# Altium footprint library Connector_Molex.PcbLib: 815 footprints (part 47 of 51)
Each footprint in its own frame and in the unit in brackets; x right, y up, seen from the top. Pads: shape width x height; smd on the part's side, far side on the other; paste and mask are expansions set on the pad; w line width, h text height; cw(c..) or ccw(c..) is an arc to the next point about the centre after c.
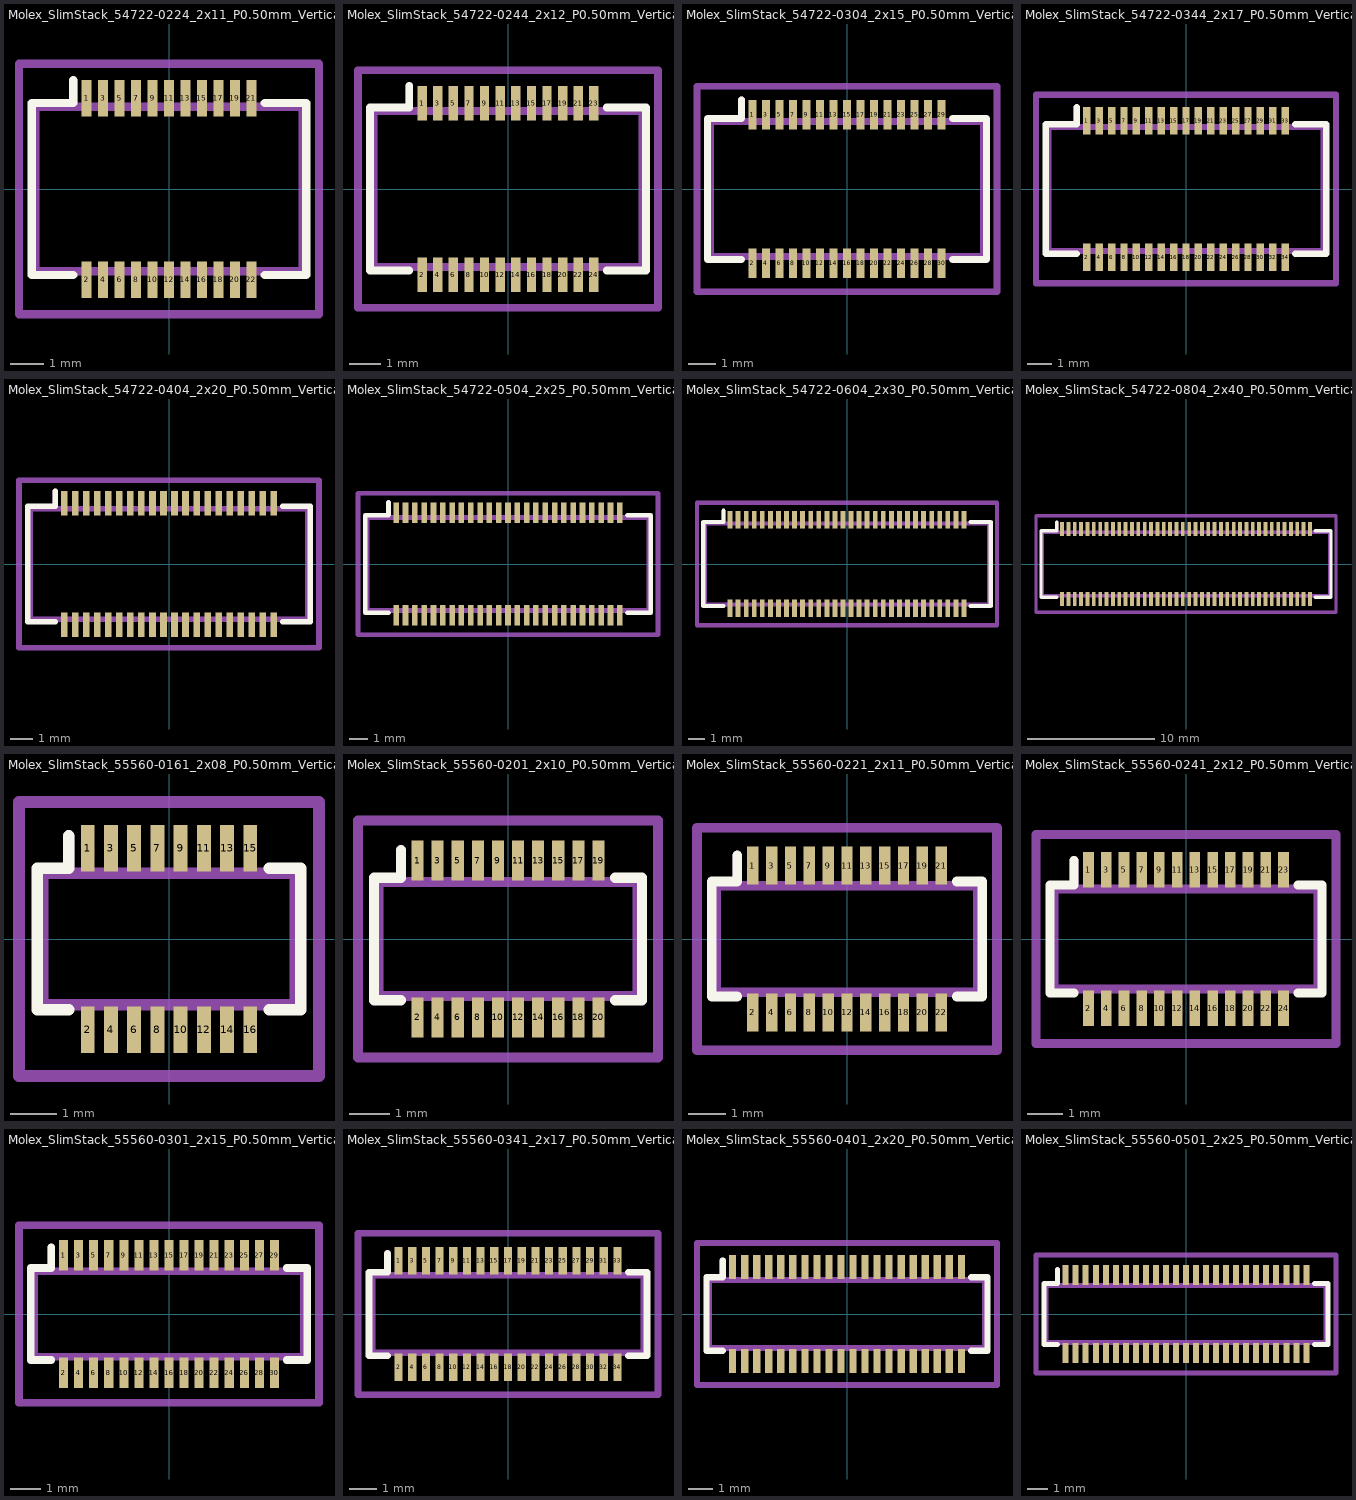
[diagram p46: the footprints below, top view; thin cyan lines are the x and y axes]

## Molex_SlimStack_54722-0224_2x11_P0.50mm_Vertical [mm]
pads (22):
  rect 0.3x1.1 smd: 1(-2.5,2.75) 2(-2.5,-2.75) 3(-2,2.75) 4(-2,-2.75) 5(-1.5,2.75) 6(-1.5,-2.75) 7(-1,2.75) 8(-1,-2.75) 9(-0.5,2.75) 10(-0.5,-2.75) 11(0,2.75) 12(0,-2.75) 13(0.5,2.75) 14(0.5,-2.75) 15(1,2.75) 16(1,-2.75) 17(1.5,2.75) 18(1.5,-2.75) 19(2,2.75) 20(2,-2.75) 21(2.5,2.75) 22(2.5,-2.75)
F.SilkS:
  lines w0.254: -2.91,-2.61 -4.16,-2.61 -4.16,2.61 -2.91,2.61 -2.91,3.3 ; 2.91,-2.61 4.16,-2.61 4.16,2.61 2.91,2.61
Top Assembly:
  lines w0.254: -2.91,2.61 -2.91,3.3 ; -4.05,-2.5 4.05,-2.5 4.05,2.5 -4.05,2.5 -4.05,-2.5
  text "'.Designator'" at -4.047,-0.84 h1
Top Courtyard:
  lines w0.254: -4.55,-3.8 4.55,-3.8 4.55,3.8 -4.55,3.8 -4.55,-3.8
Top Designator:
  text ".Designator" at -7.618,-0.508 h1.52

## Molex_SlimStack_54722-0244_2x12_P0.50mm_Vertical [mm]
pads (24):
  rect 0.3x1.1 smd: 1(-2.75,2.75) 2(-2.75,-2.75) 3(-2.25,2.75) 4(-2.25,-2.75) 5(-1.75,2.75) 6(-1.75,-2.75) 7(-1.25,2.75) 8(-1.25,-2.75) 9(-0.75,2.75) 10(-0.75,-2.75) 11(-0.25,2.75) 12(-0.25,-2.75) 13(0.25,2.75) 14(0.25,-2.75) 15(0.75,2.75) 16(0.75,-2.75) 17(1.25,2.75) 18(1.25,-2.75) 19(1.75,2.75) 20(1.75,-2.75) 21(2.25,2.75) 22(2.25,-2.75) 23(2.75,2.75) 24(2.75,-2.75)
F.SilkS:
  lines w0.254: -3.16,-2.61 -4.41,-2.61 -4.41,2.61 -3.16,2.61 -3.16,3.3 ; 3.16,-2.61 4.41,-2.61 4.41,2.61 3.16,2.61
Top Assembly:
  lines w0.254: -3.16,2.61 -3.16,3.3 ; -4.3,-2.5 4.3,-2.5 4.3,2.5 -4.3,2.5 -4.3,-2.5
  text "'.Designator'" at -4.047,-0.84 h1
Top Courtyard:
  lines w0.254: -4.8,-3.8 4.8,-3.8 4.8,3.8 -4.8,3.8 -4.8,-3.8
Top Designator:
  text ".Designator" at -7.618,-0.508 h1.52

## Molex_SlimStack_54722-0304_2x15_P0.50mm_Vertical [mm]
pads (30):
  rect 0.3x1.1 smd: 1(-3.5,2.75) 2(-3.5,-2.75) 3(-3,2.75) 4(-3,-2.75) 5(-2.5,2.75) 6(-2.5,-2.75) 7(-2,2.75) 8(-2,-2.75) 9(-1.5,2.75) 10(-1.5,-2.75) 11(-1,2.75) 12(-1,-2.75) 13(-0.5,2.75) 14(-0.5,-2.75) 15(0,2.75) 16(0,-2.75) 17(0.5,2.75) 18(0.5,-2.75) 19(1,2.75) 20(1,-2.75) 21(1.5,2.75) 22(1.5,-2.75) 23(2,2.75) 24(2,-2.75) 25(2.5,2.75) 26(2.5,-2.75) 27(3,2.75) 28(3,-2.75) 29(3.5,2.75) 30(3.5,-2.75)
F.SilkS:
  lines w0.254: -3.91,-2.61 -5.16,-2.61 -5.16,2.61 -3.91,2.61 -3.91,3.3 ; 3.91,-2.61 5.16,-2.61 5.16,2.61 3.91,2.61
Top Assembly:
  lines w0.254: -3.91,2.61 -3.91,3.3 ; -5.05,-2.5 5.05,-2.5 5.05,2.5 -5.05,2.5 -5.05,-2.5
  text "'.Designator'" at -4.047,-0.84 h1
Top Courtyard:
  lines w0.254: -5.55,-3.8 5.55,-3.8 5.55,3.8 -5.55,3.8 -5.55,-3.8
Top Designator:
  text ".Designator" at -7.618,-0.508 h1.52

## Molex_SlimStack_54722-0344_2x17_P0.50mm_Vertical [mm]
pads (34):
  rect 0.3x1.1 smd: 1(-4,2.75) 2(-4,-2.75) 3(-3.5,2.75) 4(-3.5,-2.75) 5(-3,2.75) 6(-3,-2.75) 7(-2.5,2.75) 8(-2.5,-2.75) 9(-2,2.75) 10(-2,-2.75) 11(-1.5,2.75) 12(-1.5,-2.75) 13(-1,2.75) 14(-1,-2.75) 15(-0.5,2.75) 16(-0.5,-2.75) 17(0,2.75) 18(0,-2.75) 19(0.5,2.75) 20(0.5,-2.75) 21(1,2.75) 22(1,-2.75) 23(1.5,2.75) 24(1.5,-2.75) 25(2,2.75) 26(2,-2.75) 27(2.5,2.75) 28(2.5,-2.75) 29(3,2.75) 30(3,-2.75) 31(3.5,2.75) 32(3.5,-2.75) 33(4,2.75) 34(4,-2.75)
F.SilkS:
  lines w0.254: -4.41,-2.61 -5.66,-2.61 -5.66,2.61 -4.41,2.61 -4.41,3.3 ; 4.41,-2.61 5.66,-2.61 5.66,2.61 4.41,2.61
Top Assembly:
  lines w0.254: -4.41,2.61 -4.41,3.3 ; -5.55,-2.5 5.55,-2.5 5.55,2.5 -5.55,2.5 -5.55,-2.5
  text "'.Designator'" at -4.047,-0.84 h1
Top Courtyard:
  lines w0.254: -6.05,-3.8 6.05,-3.8 6.05,3.8 -6.05,3.8 -6.05,-3.8
Top Designator:
  text ".Designator" at -7.618,-0.508 h1.52

## Molex_SlimStack_54722-0404_2x20_P0.50mm_Vertical [mm]
pads (40):
  rect 0.3x1.1 smd: 1(-4.75,2.75) 2(-4.75,-2.75) 3(-4.25,2.75) 4(-4.25,-2.75) 5(-3.75,2.75) 6(-3.75,-2.75) 7(-3.25,2.75) 8(-3.25,-2.75) 9(-2.75,2.75) 10(-2.75,-2.75) 11(-2.25,2.75) 12(-2.25,-2.75) 13(-1.75,2.75) 14(-1.75,-2.75) 15(-1.25,2.75) 16(-1.25,-2.75) 17(-0.75,2.75) 18(-0.75,-2.75) 19(-0.25,2.75) 20(-0.25,-2.75) 21(0.25,2.75) 22(0.25,-2.75) 23(0.75,2.75) 24(0.75,-2.75) 25(1.25,2.75) 26(1.25,-2.75) 27(1.75,2.75) 28(1.75,-2.75) 29(2.25,2.75) 30(2.25,-2.75) 31(2.75,2.75) 32(2.75,-2.75) 33(3.25,2.75) 34(3.25,-2.75) 35(3.75,2.75) 36(3.75,-2.75) 37(4.25,2.75) 38(4.25,-2.75) 39(4.75,2.75) 40(4.75,-2.75)
F.SilkS:
  lines w0.254: -5.16,-2.61 -6.41,-2.61 -6.41,2.61 -5.16,2.61 -5.16,3.3 ; 5.16,-2.61 6.41,-2.61 6.41,2.61 5.16,2.61
Top Assembly:
  lines w0.254: -5.16,2.61 -5.16,3.3 ; -6.3,-2.5 6.3,-2.5 6.3,2.5 -6.3,2.5 -6.3,-2.5
  text "'.Designator'" at -4.047,-0.84 h1
Top Courtyard:
  lines w0.254: -6.8,-3.8 6.8,-3.8 6.8,3.8 -6.8,3.8 -6.8,-3.8
Top Designator:
  text ".Designator" at -7.618,-0.508 h1.52

## Molex_SlimStack_54722-0504_2x25_P0.50mm_Vertical [mm]
pads (50):
  rect 0.3x1.1 smd: 1(-6,2.75) 2(-6,-2.75) 3(-5.5,2.75) 4(-5.5,-2.75) 5(-5,2.75) 6(-5,-2.75) 7(-4.5,2.75) 8(-4.5,-2.75) 9(-4,2.75) 10(-4,-2.75) 11(-3.5,2.75) 12(-3.5,-2.75) 13(-3,2.75) 14(-3,-2.75) 15(-2.5,2.75) 16(-2.5,-2.75) 17(-2,2.75) 18(-2,-2.75) 19(-1.5,2.75) 20(-1.5,-2.75) 21(-1,2.75) 22(-1,-2.75) 23(-0.5,2.75) 24(-0.5,-2.75) 25(0,2.75) 26(0,-2.75) 27(0.5,2.75) 28(0.5,-2.75) 29(1,2.75) 30(1,-2.75) 31(1.5,2.75) 32(1.5,-2.75) 33(2,2.75) 34(2,-2.75) 35(2.5,2.75) 36(2.5,-2.75) 37(3,2.75) 38(3,-2.75) 39(3.5,2.75) 40(3.5,-2.75) 41(4,2.75) 42(4,-2.75) 43(4.5,2.75) 44(4.5,-2.75) 45(5,2.75) 46(5,-2.75) 47(5.5,2.75) 48(5.5,-2.75) 49(6,2.75) 50(6,-2.75)
F.SilkS:
  lines w0.254: -6.41,-2.61 -7.66,-2.61 -7.66,2.61 -6.41,2.61 -6.41,3.3 ; 6.41,-2.61 7.66,-2.61 7.66,2.61 6.41,2.61
Top Assembly:
  lines w0.254: -6.41,2.61 -6.41,3.3 ; -7.55,-2.5 7.55,-2.5 7.55,2.5 -7.55,2.5 -7.55,-2.5
  text "'.Designator'" at -4.047,-0.84 h1
Top Courtyard:
  lines w0.254: -8.05,-3.8 8.05,-3.8 8.05,3.8 -8.05,3.8 -8.05,-3.8
Top Designator:
  text ".Designator" at -7.618,-0.508 h1.52

## Molex_SlimStack_54722-0604_2x30_P0.50mm_Vertical [mm]
pads (60):
  rect 0.3x1.1 smd: 1(-7.25,2.75) 2(-7.25,-2.75) 3(-6.75,2.75) 4(-6.75,-2.75) 5(-6.25,2.75) 6(-6.25,-2.75) 7(-5.75,2.75) 8(-5.75,-2.75) 9(-5.25,2.75) 10(-5.25,-2.75) 11(-4.75,2.75) 12(-4.75,-2.75) 13(-4.25,2.75) 14(-4.25,-2.75) 15(-3.75,2.75) 16(-3.75,-2.75) 17(-3.25,2.75) 18(-3.25,-2.75) 19(-2.75,2.75) 20(-2.75,-2.75) 21(-2.25,2.75) 22(-2.25,-2.75) 23(-1.75,2.75) 24(-1.75,-2.75) 25(-1.25,2.75) 26(-1.25,-2.75) 27(-0.75,2.75) 28(-0.75,-2.75) 29(-0.25,2.75) 30(-0.25,-2.75) 31(0.25,2.75) 32(0.25,-2.75) 33(0.75,2.75) 34(0.75,-2.75) 35(1.25,2.75) 36(1.25,-2.75) 37(1.75,2.75) 38(1.75,-2.75) 39(2.25,2.75) 40(2.25,-2.75) 41(2.75,2.75) 42(2.75,-2.75) 43(3.25,2.75) 44(3.25,-2.75) 45(3.75,2.75) 46(3.75,-2.75) 47(4.25,2.75) 48(4.25,-2.75) 49(4.75,2.75) 50(4.75,-2.75) 51(5.25,2.75) 52(5.25,-2.75) 53(5.75,2.75) 54(5.75,-2.75) 55(6.25,2.75) 56(6.25,-2.75) 57(6.75,2.75) 58(6.75,-2.75) 59(7.25,2.75) 60(7.25,-2.75)
F.SilkS:
  lines w0.254: -7.66,-2.61 -8.91,-2.61 -8.91,2.61 -7.66,2.61 -7.66,3.3 ; 7.66,-2.61 8.91,-2.61 8.91,2.61 7.66,2.61
Top Assembly:
  lines w0.254: -7.66,2.61 -7.66,3.3 ; -8.8,-2.5 8.8,-2.5 8.8,2.5 -8.8,2.5 -8.8,-2.5
  text "'.Designator'" at -4.047,-0.84 h1
Top Courtyard:
  lines w0.254: -9.3,-3.8 9.3,-3.8 9.3,3.8 -9.3,3.8 -9.3,-3.8
Top Designator:
  text ".Designator" at -7.618,-0.508 h1.52

## Molex_SlimStack_54722-0804_2x40_P0.50mm_Vertical [mm]
pads (80):
  rect 0.3x1.1 smd: 1(-9.75,2.75) 2(-9.75,-2.75) 3(-9.25,2.75) 4(-9.25,-2.75) 5(-8.75,2.75) 6(-8.75,-2.75) 7(-8.25,2.75) 8(-8.25,-2.75) 9(-7.75,2.75) 10(-7.75,-2.75) 11(-7.25,2.75) 12(-7.25,-2.75) 13(-6.75,2.75) 14(-6.75,-2.75) 15(-6.25,2.75) 16(-6.25,-2.75) 17(-5.75,2.75) 18(-5.75,-2.75) 19(-5.25,2.75) 20(-5.25,-2.75) 21(-4.75,2.75) 22(-4.75,-2.75) 23(-4.25,2.75) 24(-4.25,-2.75) 25(-3.75,2.75) 26(-3.75,-2.75) 27(-3.25,2.75) 28(-3.25,-2.75) 29(-2.75,2.75) 30(-2.75,-2.75) 31(-2.25,2.75) 32(-2.25,-2.75) 33(-1.75,2.75) 34(-1.75,-2.75) 35(-1.25,2.75) 36(-1.25,-2.75) 37(-0.75,2.75) 38(-0.75,-2.75) 39(-0.25,2.75) 40(-0.25,-2.75) 41(0.25,2.75) 42(0.25,-2.75) 43(0.75,2.75) 44(0.75,-2.75) 45(1.25,2.75) 46(1.25,-2.75) 47(1.75,2.75) 48(1.75,-2.75) 49(2.25,2.75) 50(2.25,-2.75) 51(2.75,2.75) 52(2.75,-2.75) 53(3.25,2.75) 54(3.25,-2.75) 55(3.75,2.75) 56(3.75,-2.75) 57(4.25,2.75) 58(4.25,-2.75) 59(4.75,2.75) 60(4.75,-2.75) 61(5.25,2.75) 62(5.25,-2.75) 63(5.75,2.75) 64(5.75,-2.75) 65(6.25,2.75) 66(6.25,-2.75) 67(6.75,2.75) 68(6.75,-2.75) 69(7.25,2.75) 70(7.25,-2.75) 71(7.75,2.75) 72(7.75,-2.75) 73(8.25,2.75) 74(8.25,-2.75) 75(8.75,2.75) 76(8.75,-2.75) 77(9.25,2.75) 78(9.25,-2.75) 79(9.75,2.75) 80(9.75,-2.75)
F.SilkS:
  lines w0.254: -10.16,-2.61 -11.41,-2.61 -11.41,2.61 -10.16,2.61 -10.16,3.3 ; 10.16,-2.61 11.41,-2.61 11.41,2.61 10.16,2.61
Top Assembly:
  lines w0.254: -10.16,2.61 -10.16,3.3 ; -11.3,-2.5 11.3,-2.5 11.3,2.5 -11.3,2.5 -11.3,-2.5
  text "'.Designator'" at -4.047,-0.84 h1
Top Courtyard:
  lines w0.254: -11.8,-3.8 11.8,-3.8 11.8,3.8 -11.8,3.8 -11.8,-3.8
Top Designator:
  text ".Designator" at -7.618,-0.508 h1.52

## Molex_SlimStack_55560-0161_2x08_P0.50mm_Vertical [mm]
pads (16):
  rect 0.3x1 smd: 1(-1.75,1.95) 2(-1.75,-1.95) 3(-1.25,1.95) 4(-1.25,-1.95) 5(-0.75,1.95) 6(-0.75,-1.95) 7(-0.25,1.95) 8(-0.25,-1.95) 9(0.25,1.95) 10(0.25,-1.95) 11(0.75,1.95) 12(0.75,-1.95) 13(1.25,1.95) 14(1.25,-1.95) 15(1.75,1.95) 16(1.75,-1.95)
F.SilkS:
  lines w0.254: -2.16,-1.525 -2.835,-1.525 -2.835,1.525 -2.16,1.525 -2.16,2.215 ; 2.16,-1.525 2.835,-1.525 2.835,1.525 2.16,1.525
Top Assembly:
  lines w0.254: -2.16,1.525 -2.16,2.215 ; -2.725,-1.415 2.725,-1.415 2.725,1.415 -2.725,1.415 -2.725,-1.415
  text "'.Designator'" at -4.047,-0.84 h1
Top Courtyard:
  lines w0.254: -3.23,-2.95 3.23,-2.95 3.23,2.95 -3.23,2.95 -3.23,-2.95
Top Designator:
  text ".Designator" at -7.768,-0.508 h1.52

## Molex_SlimStack_55560-0201_2x10_P0.50mm_Vertical [mm]
pads (20):
  rect 0.3x1 smd: 1(-2.25,1.95) 2(-2.25,-1.95) 3(-1.75,1.95) 4(-1.75,-1.95) 5(-1.25,1.95) 6(-1.25,-1.95) 7(-0.75,1.95) 8(-0.75,-1.95) 9(-0.25,1.95) 10(-0.25,-1.95) 11(0.25,1.95) 12(0.25,-1.95) 13(0.75,1.95) 14(0.75,-1.95) 15(1.25,1.95) 16(1.25,-1.95) 17(1.75,1.95) 18(1.75,-1.95) 19(2.25,1.95) 20(2.25,-1.95)
F.SilkS:
  lines w0.254: -2.66,-1.525 -3.335,-1.525 -3.335,1.525 -2.66,1.525 -2.66,2.215 ; 2.66,-1.525 3.335,-1.525 3.335,1.525 2.66,1.525
Top Assembly:
  lines w0.254: -2.66,1.525 -2.66,2.215 ; -3.225,-1.415 3.225,-1.415 3.225,1.415 -3.225,1.415 -3.225,-1.415
  text "'.Designator'" at -4.047,-0.84 h1
Top Courtyard:
  lines w0.254: -3.73,-2.95 3.73,-2.95 3.73,2.95 -3.73,2.95 -3.73,-2.95
Top Designator:
  text ".Designator" at -7.768,-0.508 h1.52

## Molex_SlimStack_55560-0221_2x11_P0.50mm_Vertical [mm]
pads (22):
  rect 0.3x1 smd: 1(-2.5,1.95) 2(-2.5,-1.95) 3(-2,1.95) 4(-2,-1.95) 5(-1.5,1.95) 6(-1.5,-1.95) 7(-1,1.95) 8(-1,-1.95) 9(-0.5,1.95) 10(-0.5,-1.95) 11(0,1.95) 12(0,-1.95) 13(0.5,1.95) 14(0.5,-1.95) 15(1,1.95) 16(1,-1.95) 17(1.5,1.95) 18(1.5,-1.95) 19(2,1.95) 20(2,-1.95) 21(2.5,1.95) 22(2.5,-1.95)
F.SilkS:
  lines w0.254: -2.91,-1.525 -3.585,-1.525 -3.585,1.525 -2.91,1.525 -2.91,2.215 ; 2.91,-1.525 3.585,-1.525 3.585,1.525 2.91,1.525
Top Assembly:
  lines w0.254: -2.91,1.525 -2.91,2.215 ; -3.475,-1.415 3.475,-1.415 3.475,1.415 -3.475,1.415 -3.475,-1.415
  text "'.Designator'" at -4.047,-0.84 h1
Top Courtyard:
  lines w0.254: -3.98,-2.95 3.98,-2.95 3.98,2.95 -3.98,2.95 -3.98,-2.95
Top Designator:
  text ".Designator" at -7.662,-0.508 h1.52

## Molex_SlimStack_55560-0241_2x12_P0.50mm_Vertical [mm]
pads (24):
  rect 0.3x1 smd: 1(-2.75,1.95) 2(-2.75,-1.95) 3(-2.25,1.95) 4(-2.25,-1.95) 5(-1.75,1.95) 6(-1.75,-1.95) 7(-1.25,1.95) 8(-1.25,-1.95) 9(-0.75,1.95) 10(-0.75,-1.95) 11(-0.25,1.95) 12(-0.25,-1.95) 13(0.25,1.95) 14(0.25,-1.95) 15(0.75,1.95) 16(0.75,-1.95) 17(1.25,1.95) 18(1.25,-1.95) 19(1.75,1.95) 20(1.75,-1.95) 21(2.25,1.95) 22(2.25,-1.95) 23(2.75,1.95) 24(2.75,-1.95)
F.SilkS:
  lines w0.254: -3.16,-1.525 -3.835,-1.525 -3.835,1.525 -3.16,1.525 -3.16,2.215 ; 3.16,-1.525 3.835,-1.525 3.835,1.525 3.16,1.525
Top Assembly:
  lines w0.254: -3.16,1.525 -3.16,2.215 ; -3.725,-1.415 3.725,-1.415 3.725,1.415 -3.725,1.415 -3.725,-1.415
  text "'.Designator'" at -4.047,-0.84 h1
Top Courtyard:
  lines w0.254: -4.23,-2.95 4.23,-2.95 4.23,2.95 -4.23,2.95 -4.23,-2.95
Top Designator:
  text ".Designator" at -7.618,-0.508 h1.52

## Molex_SlimStack_55560-0301_2x15_P0.50mm_Vertical [mm]
pads (30):
  rect 0.3x1 smd: 1(-3.5,1.95) 2(-3.5,-1.95) 3(-3,1.95) 4(-3,-1.95) 5(-2.5,1.95) 6(-2.5,-1.95) 7(-2,1.95) 8(-2,-1.95) 9(-1.5,1.95) 10(-1.5,-1.95) 11(-1,1.95) 12(-1,-1.95) 13(-0.5,1.95) 14(-0.5,-1.95) 15(0,1.95) 16(0,-1.95) 17(0.5,1.95) 18(0.5,-1.95) 19(1,1.95) 20(1,-1.95) 21(1.5,1.95) 22(1.5,-1.95) 23(2,1.95) 24(2,-1.95) 25(2.5,1.95) 26(2.5,-1.95) 27(3,1.95) 28(3,-1.95) 29(3.5,1.95) 30(3.5,-1.95)
F.SilkS:
  lines w0.254: -3.91,-1.525 -4.585,-1.525 -4.585,1.525 -3.91,1.525 -3.91,2.215 ; 3.91,-1.525 4.585,-1.525 4.585,1.525 3.91,1.525
Top Assembly:
  lines w0.254: -3.91,1.525 -3.91,2.215 ; -4.475,-1.415 4.475,-1.415 4.475,1.415 -4.475,1.415 -4.475,-1.415
  text "'.Designator'" at -4.047,-0.84 h1
Top Courtyard:
  lines w0.254: -4.98,-2.95 4.98,-2.95 4.98,2.95 -4.98,2.95 -4.98,-2.95
Top Designator:
  text ".Designator" at -7.618,-0.508 h1.52

## Molex_SlimStack_55560-0341_2x17_P0.50mm_Vertical [mm]
pads (34):
  rect 0.3x1 smd: 1(-4,1.95) 2(-4,-1.95) 3(-3.5,1.95) 4(-3.5,-1.95) 5(-3,1.95) 6(-3,-1.95) 7(-2.5,1.95) 8(-2.5,-1.95) 9(-2,1.95) 10(-2,-1.95) 11(-1.5,1.95) 12(-1.5,-1.95) 13(-1,1.95) 14(-1,-1.95) 15(-0.5,1.95) 16(-0.5,-1.95) 17(0,1.95) 18(0,-1.95) 19(0.5,1.95) 20(0.5,-1.95) 21(1,1.95) 22(1,-1.95) 23(1.5,1.95) 24(1.5,-1.95) 25(2,1.95) 26(2,-1.95) 27(2.5,1.95) 28(2.5,-1.95) 29(3,1.95) 30(3,-1.95) 31(3.5,1.95) 32(3.5,-1.95) 33(4,1.95) 34(4,-1.95)
F.SilkS:
  lines w0.254: -4.41,-1.525 -5.085,-1.525 -5.085,1.525 -4.41,1.525 -4.41,2.215 ; 4.41,-1.525 5.085,-1.525 5.085,1.525 4.41,1.525
Top Assembly:
  lines w0.254: -4.41,1.525 -4.41,2.215 ; -4.975,-1.415 4.975,-1.415 4.975,1.415 -4.975,1.415 -4.975,-1.415
  text "'.Designator'" at -4.047,-0.84 h1
Top Courtyard:
  lines w0.254: -5.48,-2.95 5.48,-2.95 5.48,2.95 -5.48,2.95 -5.48,-2.95
Top Designator:
  text ".Designator" at -7.618,-0.508 h1.52

## Molex_SlimStack_55560-0401_2x20_P0.50mm_Vertical [mm]
pads (40):
  rect 0.3x1 smd: 1(-4.75,1.95) 2(-4.75,-1.95) 3(-4.25,1.95) 4(-4.25,-1.95) 5(-3.75,1.95) 6(-3.75,-1.95) 7(-3.25,1.95) 8(-3.25,-1.95) 9(-2.75,1.95) 10(-2.75,-1.95) 11(-2.25,1.95) 12(-2.25,-1.95) 13(-1.75,1.95) 14(-1.75,-1.95) 15(-1.25,1.95) 16(-1.25,-1.95) 17(-0.75,1.95) 18(-0.75,-1.95) 19(-0.25,1.95) 20(-0.25,-1.95) 21(0.25,1.95) 22(0.25,-1.95) 23(0.75,1.95) 24(0.75,-1.95) 25(1.25,1.95) 26(1.25,-1.95) 27(1.75,1.95) 28(1.75,-1.95) 29(2.25,1.95) 30(2.25,-1.95) 31(2.75,1.95) 32(2.75,-1.95) 33(3.25,1.95) 34(3.25,-1.95) 35(3.75,1.95) 36(3.75,-1.95) 37(4.25,1.95) 38(4.25,-1.95) 39(4.75,1.95) 40(4.75,-1.95)
F.SilkS:
  lines w0.254: -5.16,-1.525 -5.835,-1.525 -5.835,1.525 -5.16,1.525 -5.16,2.215 ; 5.16,-1.525 5.835,-1.525 5.835,1.525 5.16,1.525
Top Assembly:
  lines w0.254: -5.16,1.525 -5.16,2.215 ; -5.725,-1.415 5.725,-1.415 5.725,1.415 -5.725,1.415 -5.725,-1.415
  text "'.Designator'" at -4.047,-0.84 h1
Top Courtyard:
  lines w0.254: -6.23,-2.95 6.23,-2.95 6.23,2.95 -6.23,2.95 -6.23,-2.95
Top Designator:
  text ".Designator" at -7.618,-0.508 h1.52

## Molex_SlimStack_55560-0501_2x25_P0.50mm_Vertical [mm]
pads (50):
  rect 0.3x1 smd: 1(-6,1.95) 2(-6,-1.95) 3(-5.5,1.95) 4(-5.5,-1.95) 5(-5,1.95) 6(-5,-1.95) 7(-4.5,1.95) 8(-4.5,-1.95) 9(-4,1.95) 10(-4,-1.95) 11(-3.5,1.95) 12(-3.5,-1.95) 13(-3,1.95) 14(-3,-1.95) 15(-2.5,1.95) 16(-2.5,-1.95) 17(-2,1.95) 18(-2,-1.95) 19(-1.5,1.95) 20(-1.5,-1.95) 21(-1,1.95) 22(-1,-1.95) 23(-0.5,1.95) 24(-0.5,-1.95) 25(0,1.95) 26(0,-1.95) 27(0.5,1.95) 28(0.5,-1.95) 29(1,1.95) 30(1,-1.95) 31(1.5,1.95) 32(1.5,-1.95) 33(2,1.95) 34(2,-1.95) 35(2.5,1.95) 36(2.5,-1.95) 37(3,1.95) 38(3,-1.95) 39(3.5,1.95) 40(3.5,-1.95) 41(4,1.95) 42(4,-1.95) 43(4.5,1.95) 44(4.5,-1.95) 45(5,1.95) 46(5,-1.95) 47(5.5,1.95) 48(5.5,-1.95) 49(6,1.95) 50(6,-1.95)
F.SilkS:
  lines w0.254: -6.41,-1.525 -7.085,-1.525 -7.085,1.525 -6.41,1.525 -6.41,2.215 ; 6.41,-1.525 7.085,-1.525 7.085,1.525 6.41,1.525
Top Assembly:
  lines w0.254: -6.41,1.525 -6.41,2.215 ; -6.975,-1.415 6.975,-1.415 6.975,1.415 -6.975,1.415 -6.975,-1.415
  text "'.Designator'" at -4.047,-0.84 h1
Top Courtyard:
  lines w0.254: -7.48,-2.95 7.48,-2.95 7.48,2.95 -7.48,2.95 -7.48,-2.95
Top Designator:
  text ".Designator" at -7.618,-0.508 h1.52